# Altium schematic symbol library RM14_12PIN_CUSTOM5.Schlib: 1 symbol
Pins are listed as number, name and electrical type; pins without a type are passive.

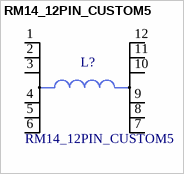
[diagram p0: symbol RM14_12PIN_CUSTOM5]

## RM14_12PIN_CUSTOM5
designator L?
pins: 1, 2, 3, 4, 5, 6, 7, 8, 9, 10, 11, 12